# Altium footprint library Pcb_Iskra.PcbLib: 2 footprints
Each footprint in its own frame and in the unit in brackets; x right, y up, seen from the top. Pads: shape width x height; smd on the part's side, far side on the other; paste and mask are expansions set on the pad; w line width, h text height; cw(c..) or ccw(c..) is an arc to the next point about the centre after c.
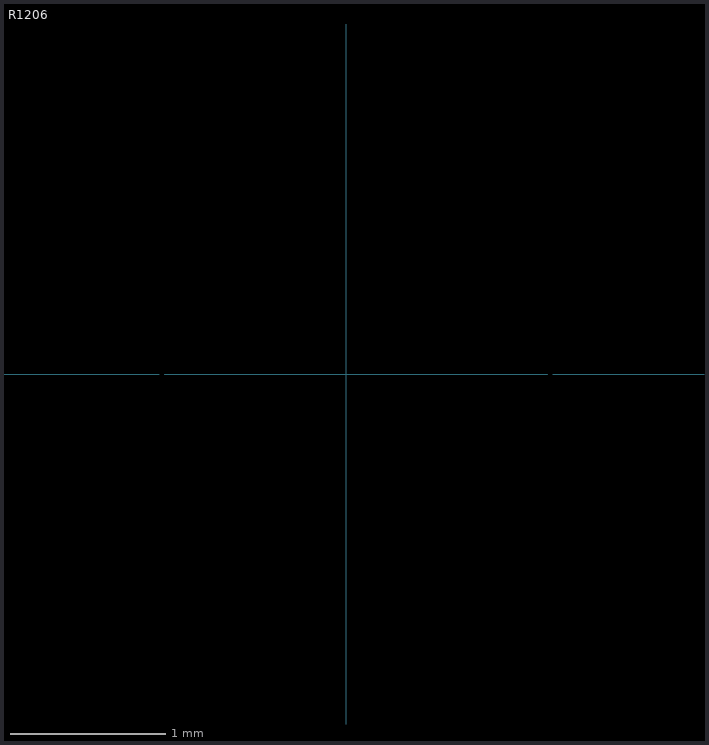
[diagram p0: the footprints below, top view; thin cyan lines are the x and y axes]

## R0805 [mm]

## R1206 [mm]
pads (2):
  rect 1x1.6 on Top Paste: 2(-1.2,0) 2(1.3,0)